# Altium schematic symbol library Connector - Rectangular.SchLib: 115 symbols (part 1 of 2)
Pins are listed as number, name and electrical type; pins without a type are passive.

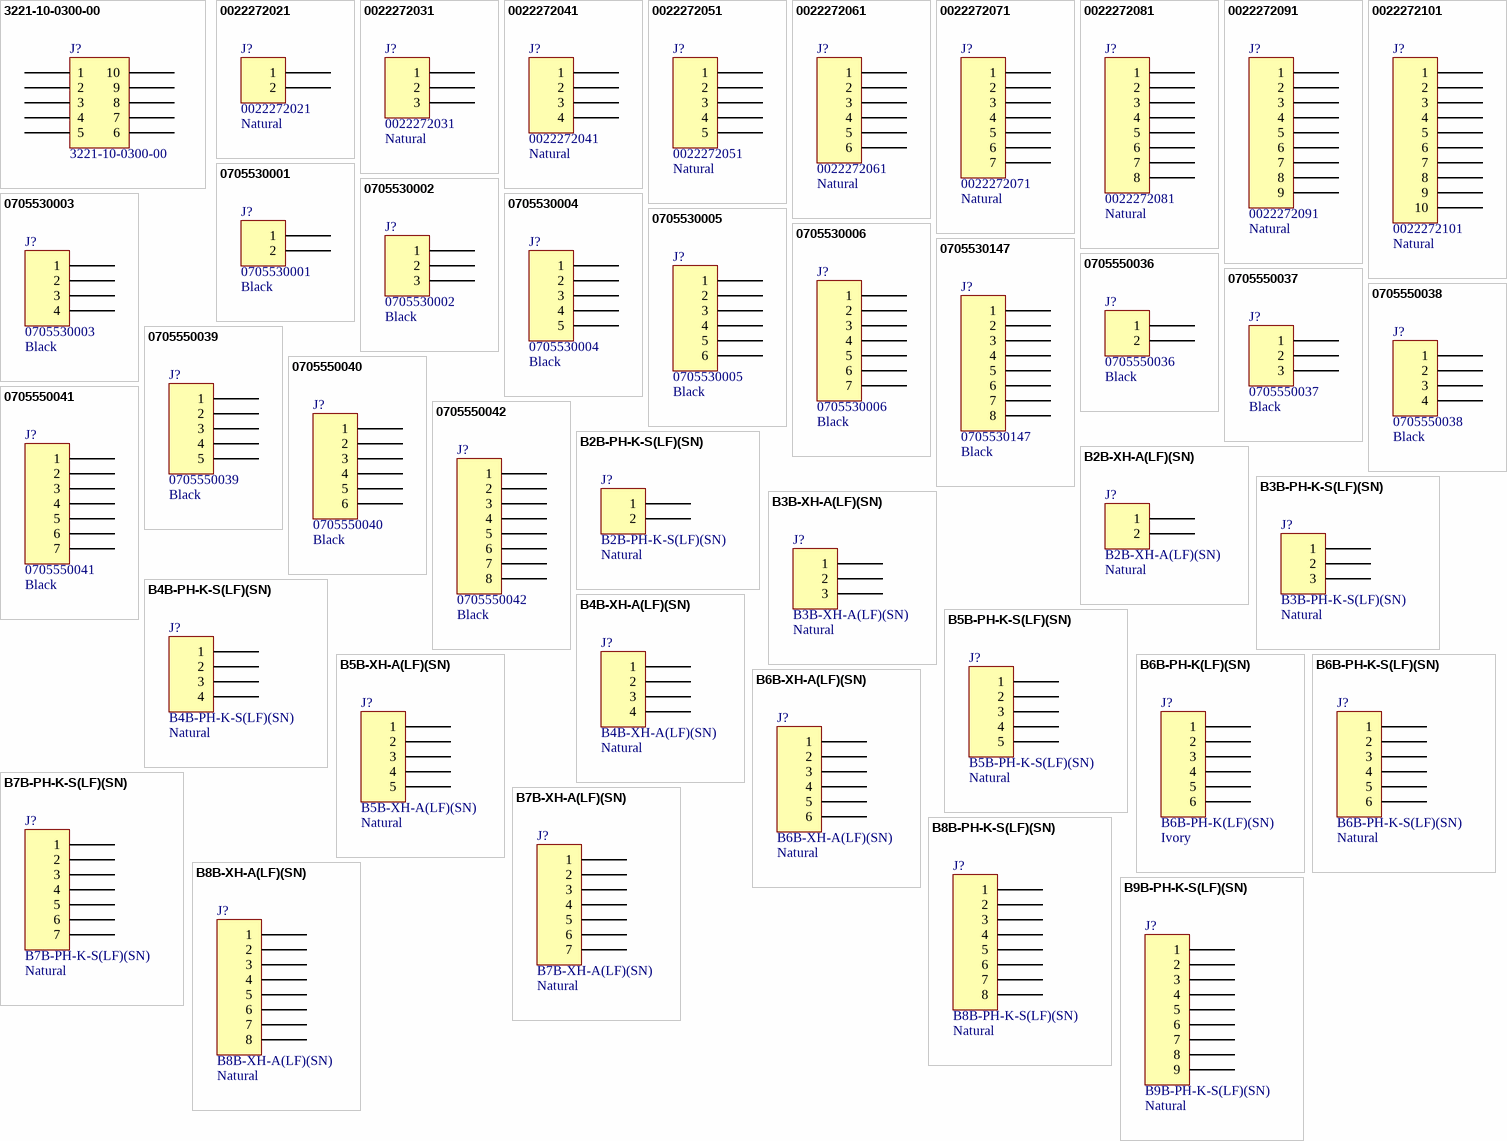
[diagram p0: symbols 3221-10-0300-00 to B9B-PH-K-S(LF)(SN)]

## 3221-10-0300-00
designator J?
IDC BOX HEADER .050" 10 POS; Manufacturer: CNC Tech; Part Number: 3221-10-0300-00; PartId: 21201; Supplier 1: Digi-Key; Supplier Part Number 1: 1175-1735-ND; ComponentLink1Description: Datasheet; ComponentLink1URL: http://cnctech.us/pdfs/3221-XX-0300-00.pdf; ComponentLink2Description: Digi-Key Listing; ComponentLink2URL: http://www.digikey.com/product-detail/en/cnc-tech/3221-10-0300-00/1175-1735-ND/4878946; Price: 0.64
footprint CNC Tech 3221-10-0300-00
pins: 1, 2, 3, 4, 5, 6, 7, 8, 9, 10

## 0022272021
designator J?  Colour: Natural
CONN HEADER 2POS .100 VERT TIN; Manufacturer: Molex, LLC; Pitch: 0.100" (2.54mm); Number Of Positions: 2; Part Number: 0022272021; PartId: 9719; Supplier 1: Digi-Key; Supplier Part Number 1: WM4111-ND; ComponentLink1Description: Datasheet; ComponentLink1URL: http://www.molex.com/pdm_docs/sd/022272021_sd.pdf; ComponentLink2Description: Digi-Key Listing; ComponentLink2URL: http://www.digikey.com/product-search/en?keywords=22-27-2021; Price: 0.25; Type: Header, Unshrouded; Contact Finish: Tin; Fastening Type: Friction Lock; Number Of Rows: 1; Series: KK 6410
footprint MOLEX KK 0022272021
pins: 1, 2

## 0022272031
designator J?  Colour: Natural
CONN HEADER 3POS .100 VERT TIN; Manufacturer: Molex, LLC; Pitch: 0.100" (2.54mm); Number Of Positions: 3; Part Number: 0022272031; PartId: 9720; Supplier 1: Digi-Key; Supplier Part Number 1: WM4112-ND; ComponentLink1Description: Datasheet; ComponentLink1URL: http://www.molex.com/pdm_docs/sd/022272031_sd.pdf; ComponentLink2Description: Digi-Key Listing; ComponentLink2URL: http://www.digikey.com/product-search/en?keywords=22-27-2031; Price: 0.35; Type: Header, Unshrouded; Contact Finish: Tin; Fastening Type: Friction Lock; Number Of Rows: 1; Series: KK 6410
footprint MOLEX KK 0022272031
pins: 1, 2, 3

## 0022272041
designator J?  Colour: Natural
CONN HEADER 4POS .100 VERT TIN; Manufacturer: Molex, LLC; Pitch: 0.100" (2.54mm); Number Of Positions: 4; Part Number: 0022272041; PartId: 9721; Supplier 1: Digi-Key; Supplier Part Number 1: WM4113-ND; ComponentLink1Description: Datasheet; ComponentLink1URL: http://www.molex.com/pdm_docs/sd/022272041_sd.pdf; ComponentLink2Description: Digi-Key Listing; ComponentLink2URL: http://www.digikey.com/product-search/en?keywords=22-27-2041; Price: 0.39; Type: Header, Unshrouded; Contact Finish: Tin; Fastening Type: Friction Lock; Number Of Rows: 1; Series: KK 6410
footprint MOLEX KK 0022272041
pins: 1, 2, 3, 4

## 0022272051
designator J?  Colour: Natural
CONN HEADER 5POS .100 VERT TIN; Manufacturer: Molex, LLC; Pitch: 0.100" (2.54mm); Number Of Positions: 5; Part Number: 0022272051; PartId: 9722; Supplier 1: Digi-Key; Supplier Part Number 1: WM4114-ND; ComponentLink1Description: Datasheet; ComponentLink1URL: http://www.molex.com/pdm_docs/sd/022272051_sd.pdf; ComponentLink2Description: Digi-Key Listing; ComponentLink2URL: http://www.digikey.com/product-search/en?keywords=22-27-2051; Price: 0.44; Type: Header, Unshrouded; Contact Finish: Tin; Fastening Type: Friction Lock; Number Of Rows: 1; Series: KK 6410
footprint MOLEX KK 0022272051
pins: 1, 2, 3, 4, 5

## 0022272061
designator J?  Colour: Natural
CONN HEADER 6POS .100 VERT TIN; Manufacturer: Molex, LLC; Pitch: 0.100" (2.54mm); Number Of Positions: 6; Part Number: 0022272061; PartId: 9723; Supplier 1: Digi-Key; Supplier Part Number 1: WM4115-ND; ComponentLink1Description: Datasheet; ComponentLink1URL: http://www.molex.com/pdm_docs/sd/022272061_sd.pdf; ComponentLink2Description: Digi-Key Listing; ComponentLink2URL: http://www.digikey.com/product-search/en?keywords=22-27-2061; Price: 0.47; Type: Header, Unshrouded; Contact Finish: Tin; Fastening Type: Friction Lock; Number Of Rows: 1; Series: KK 6410
footprint MOLEX KK 0022272061
pins: 1, 2, 3, 4, 5, 6

## 0022272071
designator J?  Colour: Natural
CONN HEADER 7POS .100 VERT TIN; Manufacturer: Molex, LLC; Pitch: 0.100" (2.54mm); Number Of Positions: 7; Part Number: 0022272071; PartId: 9724; Supplier 1: Digi-Key; Supplier Part Number 1: WM4116-ND; ComponentLink1Description: Datasheet; ComponentLink1URL: http://www.molex.com/pdm_docs/sd/022272071_sd.pdf; ComponentLink2Description: Digi-Key Listing; ComponentLink2URL: http://www.digikey.com/product-search/en?keywords=22-27-2071; Price: 0.49; Type: Header, Unshrouded; Contact Finish: Tin; Fastening Type: Friction Lock; Number Of Rows: 1; Series: KK 6410
footprint MOLEX KK 0022272071
pins: 1, 2, 3, 4, 5, 6, 7

## 0022272081
designator J?  Colour: Natural
CONN HEADER 8POS .100 VERT TIN; Manufacturer: Molex, LLC; Pitch: 0.100" (2.54mm); Number Of Positions: 8; Part Number: 0022272081; PartId: 9725; Supplier 1: Digi-Key; Supplier Part Number 1: WM4117-ND; ComponentLink1Description: Datasheet; ComponentLink1URL: http://www.molex.com/pdm_docs/sd/022272081_sd.pdf; ComponentLink2Description: Digi-Key Listing; ComponentLink2URL: http://www.digikey.com/product-search/en?keywords=22-27-2081; Price: 0.55; Type: Header, Unshrouded; Contact Finish: Tin; Fastening Type: Friction Lock; Number Of Rows: 1; Series: KK 6410
footprint MOLEX KK 0022272081
pins: 1, 2, 3, 4, 5, 6, 7, 8

## 0022272091
designator J?  Colour: Natural
CONN HEADER 9POS .100 VERT TIN; Manufacturer: Molex, LLC; Pitch: 0.100" (2.54mm); Number Of Positions: 9; Part Number: 0022272091; PartId: 9726; Supplier 1: Digi-Key; Supplier Part Number 1: WM4118-ND; ComponentLink1Description: Datasheet; ComponentLink1URL: http://www.molex.com/pdm_docs/sd/022272091_sd.pdf; ComponentLink2Description: Digi-Key Listing; ComponentLink2URL: http://www.digikey.com/product-search/en?keywords=22-27-2091; Price: 0.79; Type: Header, Unshrouded; Contact Finish: Tin; Fastening Type: Friction Lock; Number Of Rows: 1; Series: KK 6410
footprint MOLEX KK 0022272091
pins: 1, 2, 3, 4, 5, 6, 7, 8, 9

## 0022272101
designator J?  Colour: Natural
CONN HEADER 10POS .100 VERT TIN; Manufacturer: Molex, LLC; Pitch: 0.100" (2.54mm); Number Of Positions: 10; Part Number: 0022272101; PartId: 9727; Supplier 1: Digi-Key; Supplier Part Number 1: WM4119-ND; ComponentLink1Description: Datasheet; ComponentLink1URL: http://www.molex.com/pdm_docs/sd/022272101_sd.pdf; ComponentLink2Description: Digi-Key Listing; ComponentLink2URL: http://www.digikey.com/product-search/en?keywords=22-27-2101; Price: 0.73; Type: Header, Unshrouded; Contact Finish: Tin; Fastening Type: Friction Lock; Number Of Rows: 1; Series: KK 6410
footprint MOLEX KK 0022272101
pins: 1, 2, 3, 4, 5, 6, 7, 8, 9, 10

## 0705530001
designator J?  Colour: Black
CONN HEADER 2POS .100 R/A GOLD; Manufacturer: Molex, LLC; Pitch: 0.100" (2.54mm); Number Of Positions: 2; Part Number: 0705530001; PartId: 7802; Supplier 1: Digi-Key; Supplier Part Number 1: WM4900-ND; ComponentLink1Description: Datasheet; ComponentLink1URL: http://www.molex.com/pdm_docs/sd/705530001_sd.pdf; ComponentLink2Description: Digi-Key Listing; ComponentLink2URL: http://www.digikey.ca/product-detail/en/0705530001/WM4900-ND/114951; Price: 1.06; Type: Through Hole, Right Angle; Contact Finish: Gold; Fastening Type: Latch Holder; Number Of Rows: 1; Series: 70553
footprint MOLEX SDA-70553-2PIN
pins: 1, 2

## 0705530002
designator J?  Colour: Black
CONN HEADER 3POS .100 R/A GOLD; Manufacturer: Molex, LLC; Pitch: 0.100" (2.54mm); Number Of Positions: 3; Part Number: 0705530002; PartId: 7804; Supplier 1: Digi-Key; Supplier Part Number 1: WM4901-ND; ComponentLink1Description: Datasheet; ComponentLink1URL: http://www.molex.com/pdm_docs/sd/705530002_sd.pdf; ComponentLink2Description: Digi-Key Listing; ComponentLink2URL: http://www.digikey.ca/product-detail/en/0705530002/WM4901-ND/114955; Price: 1.52; Type: Through Hole, Right Angle; Contact Finish: Gold; Fastening Type: Latch Holder; Number Of Rows: 1; Series: 70553
footprint MOLEX SDA-70553-3PIN
pins: 1, 2, 3

## 0705530003
designator J?  Colour: Black
CONN HEADER 4POS .100 R/A GOLD; Manufacturer: Molex, LLC; Pitch: 0.100" (2.54mm); Number Of Positions: 4; Part Number: 0705530003; PartId: 7806; Supplier 1: Digi-Key; Supplier Part Number 1: WM4902-ND; ComponentLink1Description: Datasheet; ComponentLink1URL: http://www.molex.com/pdm_docs/sd/705530002_sd.pdf; ComponentLink2Description: Digi-Key Listing; ComponentLink2URL: http://www.digikey.ca/product-detail/en/0705530003/WM4902-ND/114959; Price: 1.58; Type: Through Hole, Right Angle; Contact Finish: Gold; Fastening Type: Latch Holder; Number Of Rows: 1; Series: 70553
footprint MOLEX SDA-70553-4PIN
pins: 1, 2, 3, 4

## 0705530004
designator J?  Colour: Black
CONN HEADER 5POS .100 R/A GOLD; Manufacturer: Molex, LLC; Pitch: 0.100" (2.54mm); Number Of Positions: 5; Part Number: 0705530004; PartId: 7808; Supplier 1: Digi-Key; Supplier Part Number 1: WM4903-ND; ComponentLink1Description: Datasheet; ComponentLink1URL: http://www.molex.com/pdm_docs/sd/705530002_sd.pdf; ComponentLink2Description: Digi-Key Listing; ComponentLink2URL: http://www.digikey.ca/product-detail/en/0705530004/WM4903-ND/114963; Price: 2.08; Type: Through Hole, Right Angle; Contact Finish: Gold; Fastening Type: Latch Holder; Number Of Rows: 1; Series: 70553
footprint MOLEX SDA-70553-5PIN
pins: 1, 2, 3, 4, 5

## 0705530005
designator J?  Colour: Black
CONN HEADER 6POS .100 R/A GOLD; Manufacturer: Molex, LLC; Pitch: 0.100" (2.54mm); Number Of Positions: 6; Part Number: 0705530005; PartId: 7810; Supplier 1: Digi-Key; Supplier Part Number 1: WM4904-ND; ComponentLink1Description: Datasheet; ComponentLink1URL: http://www.molex.com/pdm_docs/sd/705530005_sd.pdf; ComponentLink2Description: Digi-Key Listing; ComponentLink2URL: http://www.digikey.ca/product-detail/en/0705530005/WM4904-ND/114967; Price: 2.47; Type: Through Hole, Right Angle; Contact Finish: Gold; Fastening Type: -; Number Of Rows: 1; Series: 70553
footprint MOLEX SDA-70553-6PIN
pins: 1, 2, 3, 4, 5, 6

## 0705530006
designator J?  Colour: Black
CONN HEADER 7POS .100 R/A GOLD; Manufacturer: Molex, LLC; Pitch: 0.100" (2.54mm); Number Of Positions: 7; Part Number: 0705530006; PartId: 7812; Supplier 1: Digi-Key; Supplier Part Number 1: WM4905-ND; ComponentLink1Description: Datasheet; ComponentLink1URL: http://www.molex.com/pdm_docs/sd/705530006_sd.pdf; ComponentLink2Description: Digi-Key Listing; ComponentLink2URL: http://www.digikey.ca/product-detail/en/0705530006/WM4905-ND/114971; Price: 3.56; Type: Through Hole, Right Angle; Contact Finish: Gold; Fastening Type: -; Number Of Rows: 1; Series: 70553
footprint MOLEX SDA-70553-7PIN
pins: 1, 2, 3, 4, 5, 6, 7

## 0705530147
designator J?  Colour: Black
CONN HEADER R/A GOLD 8POS; Manufacturer: Molex, LLC; Pitch: 0.100" (2.54mm); Number Of Positions: 8; Part Number: 0705530147; PartId: 7814; Supplier 1: Digi-Key; Supplier Part Number 1: 0705530147-ND; ComponentLink1Description: Datasheet; ComponentLink1URL: http://www.molex.com/pdm_docs/ps/PS-70400.pdf; ComponentLink2Description: Digi-Key Listing; ComponentLink2URL: http://www.digikey.ca/product-detail/en/0705530147/0705530147-ND/3302460; Price: 1.9201; Type: Through Hole, Right Angle; Contact Finish: Gold; Fastening Type: Latch Holder; Number Of Rows: 1; Series: 70553
footprint MOLEX SDA-70553-8PIN
pins: 1, 2, 3, 4, 5, 6, 7, 8

## 0705550036
designator J?  Colour: Black
CONN HEADER 2POS .100 R/A 15AU; Manufacturer: Molex, LLC; Pitch: 0.100" (2.54mm); Number Of Positions: 2; Part Number: 0705550036; PartId: 7803; Supplier 1: Digi-Key; Supplier Part Number 1: WM4175-ND; ComponentLink1Description: Datasheet; ComponentLink1URL: http://www.molex.com/pdm_docs/sd/705550001_sd.pdf; ComponentLink2Description: Digi-Key Listing; ComponentLink2URL: http://www.digikey.ca/product-detail/en/0705550036/WM4175-ND/1643409; Price: 1.52; Type: Through Hole, Right Angle; Contact Finish: Gold; Fastening Type: Latch Holder; Number Of Rows: 1; Series: 70555
footprint MOLEX SDA-70555-2PIN
pins: 1, 2

## 0705550037
designator J?  Colour: Black
CONN HEADER 3POS .100 R/A 15AU; Manufacturer: Molex, LLC; Pitch: 0.100" (2.54mm); Number Of Positions: 3; Part Number: 0705550037; PartId: 7805; Supplier 1: Digi-Key; Supplier Part Number 1: WM4176-ND; ComponentLink1Description: Datasheet; ComponentLink1URL: http://www.molex.com/pdm_docs/sd/705550001_sd.pdf; ComponentLink2Description: Digi-Key Listing; ComponentLink2URL: http://www.digikey.ca/product-detail/en/0705550037/WM4176-ND/1643410; Price: 1.55; Type: Through Hole, Right Angle; Contact Finish: Gold; Fastening Type: Latch Holder; Number Of Rows: 1; Series: 70555
footprint MOLEX SDA-70555-3PIN
pins: 1, 2, 3

## 0705550038
designator J?  Colour: Black
CONN HEADER 4POS .100 R/A 15AU; Manufacturer: Molex, LLC; Pitch: 0.100" (2.54mm); Number Of Positions: 4; Part Number: 0705550038; PartId: 7807; Supplier 1: Digi-Key; Supplier Part Number 1: WM4177-ND; ComponentLink1Description: Datasheet; ComponentLink1URL: http://www.molex.com/pdm_docs/sd/705550001_sd.pdf; ComponentLink2Description: Digi-Key Listing; ComponentLink2URL: http://www.digikey.ca/product-detail/en/0705550038/WM4177-ND/1643411; Price: 1.78; Type: Through Hole, Right Angle; Contact Finish: Gold; Fastening Type: Latch Holder; Number Of Rows: 1; Series: 70555
footprint MOLEX SDA-70555-4PIN
pins: 1, 2, 3, 4

## 0705550039
designator J?  Colour: Black
CONN HEADER 5POS .100 R/A 15AU; Manufacturer: Molex, LLC; Pitch: 0.100" (2.54mm); Number Of Positions: 5; Part Number: 0705550039; PartId: 7809; Supplier 1: Digi-Key; Supplier Part Number 1: WM4178-ND; ComponentLink1Description: Datasheet; ComponentLink1URL: http://www.molex.com/pdm_docs/sd/705550001_sd.pdf; ComponentLink2Description: Digi-Key Listing; ComponentLink2URL: http://www.digikey.ca/product-detail/en/0705550039/WM4178-ND/1643412; Price: 2.85; Type: Through Hole, Right Angle; Contact Finish: Gold; Fastening Type: Latch Holder; Number Of Rows: 1; Series: 70555
footprint MOLEX SDA-70555-5PIN
pins: 1, 2, 3, 4, 5

## 0705550040
designator J?  Colour: Black
CONN HEADER 6POS .100 R/A 15AU; Manufacturer: Molex, LLC; Pitch: 0.100" (2.54mm); Number Of Positions: 6; Part Number: 0705550040; PartId: 7811; Supplier 1: Digi-Key; Supplier Part Number 1: WM4179-ND; ComponentLink1Description: Datasheet; ComponentLink1URL: http://www.molex.com/pdm_docs/sd/705550001_sd.pdf; ComponentLink2Description: Digi-Key Listing; ComponentLink2URL: http://www.digikey.ca/product-detail/en/0705550040/WM4179-ND/1643413; Price: 3.06; Type: Through Hole, Right Angle; Contact Finish: Gold; Fastening Type: -; Number Of Rows: 1; Series: 70555
footprint MOLEX SDA-70555-6PIN
pins: 1, 2, 3, 4, 5, 6

## 0705550041
designator J?  Colour: Black
CONN HEADER 7POS .100 R/A 15AU; Manufacturer: Molex, LLC; Pitch: 0.100" (2.54mm); Number Of Positions: 7; Part Number: 0705550041; PartId: 7813; Supplier 1: Digi-Key; Supplier Part Number 1: WM4180-ND; ComponentLink1Description: Datasheet; ComponentLink1URL: http://www.molex.com/pdm_docs/sd/705550001_sd.pdf; ComponentLink2Description: Digi-Key Listing; ComponentLink2URL: http://www.digikey.ca/product-detail/en/0705550041/WM4180-ND/1643414; Price: 3.99; Type: Through Hole, Right Angle; Contact Finish: Gold; Fastening Type: -; Number Of Rows: 1; Series: 70555
footprint MOLEX SDA-70555-7PIN
pins: 1, 2, 3, 4, 5, 6, 7

## 0705550042
designator J?  Colour: Black
CONN HEADER 8POS .100 R/A 15AU; Manufacturer: Molex, LLC; Pitch: 0.100" (2.54mm); Number Of Positions: 8; Part Number: 0705550042; PartId: 7815; Supplier 1: Digi-Key; Supplier Part Number 1: WM4181-ND; ComponentLink1Description: Datasheet; ComponentLink1URL: http://www.molex.com/pdm_docs/sd/705550001_sd.pdf; ComponentLink2Description: Digi-Key Listing; ComponentLink2URL: http://www.digikey.ca/product-detail/en/0705550042/WM4181-ND/1643415; Price: 3.64; Type: Through Hole, Right Angle; Contact Finish: Gold; Fastening Type: Latch Holder; Number Of Rows: 1; Series: 70555
footprint MOLEX SDA-70555-8PIN
pins: 1, 2, 3, 4, 5, 6, 7, 8

## B2B-PH-K-S(LF)(SN)
designator J?  Colour: Natural
CONN HEADER PH TOP 2POS 2MM; Manufacturer: JST Sales America Inc.; Pitch: 0.079" (2.00mm); Number Of Positions: 2; Part Number: B2B-PH-K-S(LF)(SN); PartId: 29447; Supplier 1: Digi-Key; Supplier Part Number 1: 455-1704-ND; ComponentLink1Description: Datasheet; ComponentLink1URL: http://www.jst-mfg.com/product/pdf/eng/ePH.pdf; ComponentLink2Description: Digi-Key Listing; ComponentLink2URL: http://www.digikey.com/product-detail/en/jst-sales-america-inc/B2B-PH-K-S(LF)(SN)/455-1704-ND/926611; Price: 0.17; Type: Header, Shrouded; Contact Finish: Tin; Fastening Type: Detent Lock; Number Of Rows: 1; Series: PH
footprint JST B2B-PH-K
pins: 1, 2

## B2B-XH-A(LF)(SN)
designator J?  Colour: Natural
CONN HEADER XH TOP 2POS 2.5MM; Manufacturer: JST Sales America Inc.; Pitch: 0.098" (2.50mm); Number Of Positions: 2; Part Number: B2B-XH-A(LF)(SN); PartId: 16449; Supplier 1: Digi-Key; Supplier Part Number 1: 455-2247-ND; ComponentLink1Description: Datasheet; ComponentLink1URL: http://www.jst-mfg.com/product/pdf/eng/eXH.pdf; ComponentLink2Description: Digi-Key Listing; ComponentLink2URL: http://www.digikey.com/product-detail/en/jst-sales-america-inc/B2B-XH-A(LF)(SN)/455-2247-ND/1651045; Price: 0.15; Type: Header, Shrouded; Contact Finish: Tin; Fastening Type: Detent Lock; Number Of Rows: 1; Series: XH
footprint JST XH B2B-XH-A
pins: 1, 2

## B3B-PH-K-S(LF)(SN)
designator J?  Colour: Natural
CONN HEADER PH TOP 3POS 2MM; Manufacturer: JST Sales America Inc.; Pitch: 0.079" (2.00mm); Number Of Positions: 3; Part Number: B3B-PH-K-S(LF)(SN); PartId: 29448; Supplier 1: Digi-Key; Supplier Part Number 1: 455-1705-ND; ComponentLink1Description: Datasheet; ComponentLink1URL: http://www.jst-mfg.com/product/pdf/eng/ePH.pdf; ComponentLink2Description: Digi-Key Listing; ComponentLink2URL: http://www.digikey.com/product-detail/en/jst-sales-america-inc/B3B-PH-K-S(LF)(SN)/455-1705-ND/926612; Price: 0.19; Type: Header, Shrouded; Contact Finish: Tin; Fastening Type: Detent Lock; Number Of Rows: 1; Series: PH
footprint JST B3B-PH-K
pins: 1, 2, 3

## B3B-XH-A(LF)(SN)
designator J?  Colour: Natural
CONN HEADER XH TOP 3POS 2.5MM; Manufacturer: JST Sales America Inc.; Pitch: 0.098" (2.50mm); Number Of Positions: 3; Part Number: B3B-XH-A(LF)(SN); PartId: 16450; Supplier 1: Digi-Key; Supplier Part Number 1: 455-2248-ND; ComponentLink1Description: Datasheet; ComponentLink1URL: http://www.jst-mfg.com/product/pdf/eng/eXH.pdf; ComponentLink2Description: Digi-Key Listing; ComponentLink2URL: http://www.digikey.com/product-detail/en/jst-sales-america-inc/B3B-XH-A(LF)(SN)/455-2248-ND/1651046; Price: 0.19; Type: Header, Shrouded; Contact Finish: Tin; Fastening Type: Detent Lock; Number Of Rows: 1; Series: XH
footprint JST XH B3B-XH-A
pins: 1, 2, 3

## B4B-PH-K-S(LF)(SN)
designator J?  Colour: Natural
CONN HEADER PH TOP 4POS 2MM; Manufacturer: JST Sales America Inc.; Pitch: 0.079" (2.00mm); Number Of Positions: 4; Part Number: B4B-PH-K-S(LF)(SN); PartId: 29449; Supplier 1: Digi-Key; Supplier Part Number 1: 455-1706-ND; ComponentLink1Description: Datasheet; ComponentLink1URL: http://www.jst-mfg.com/product/pdf/eng/ePH.pdf; ComponentLink2Description: Digi-Key Listing; ComponentLink2URL: http://www.digikey.com/product-detail/en/jst-sales-america-inc/B4B-PH-K-S(LF)(SN)/455-1706-ND/926613; Price: 0.24; Type: Header, Shrouded; Contact Finish: Tin; Fastening Type: Detent Lock; Number Of Rows: 1; Series: PH
footprint JST B4B-PH-K
pins: 1, 2, 3, 4

## B4B-XH-A(LF)(SN)
designator J?  Colour: Natural
CONN HEADER XH TOP 4POS 2.5MM; Manufacturer: JST Sales America Inc.; Pitch: 0.098" (2.50mm); Number Of Positions: 4; Part Number: B4B-XH-A(LF)(SN); PartId: 16451; Supplier 1: Digi-Key; Supplier Part Number 1: 455-2249-ND; ComponentLink1Description: Datasheet; ComponentLink1URL: http://www.jst-mfg.com/product/pdf/eng/eXH.pdf; ComponentLink2Description: Digi-Key Listing; ComponentLink2URL: http://www.digikey.com/product-detail/en/jst-sales-america-inc/B4B-XH-A(LF)(SN)/455-2249-ND/1651047; Price: 0.21; Type: Header, Shrouded; Contact Finish: Tin; Fastening Type: Detent Lock; Number Of Rows: 1; Series: XH
footprint JST XH B4B-XH-A
pins: 1, 2, 3, 4

## B5B-PH-K-S(LF)(SN)
designator J?  Colour: Natural
CONN HEADER PH TOP 5POS 2MM; Manufacturer: JST Sales America Inc.; Pitch: 0.079" (2.00mm); Number Of Positions: 5; Part Number: B5B-PH-K-S(LF)(SN); PartId: 29450; Supplier 1: Digi-Key; Supplier Part Number 1: 455-1707-ND; ComponentLink1Description: Datasheet; ComponentLink1URL: http://www.jst-mfg.com/product/pdf/eng/ePH.pdf; ComponentLink2Description: Digi-Key Listing; ComponentLink2URL: http://www.digikey.com/product-detail/en/jst-sales-america-inc/B5B-PH-K-S(LF)(SN)/455-1707-ND/926614; Price: 0.29; Type: Header, Shrouded; Contact Finish: Tin; Fastening Type: Detent Lock; Number Of Rows: 1; Series: PH
footprint JST B5B-PH-K
pins: 1, 2, 3, 4, 5

## B5B-XH-A(LF)(SN)
designator J?  Colour: Natural
CONN HEADER XH TOP 5POS 2.5MM; Manufacturer: JST Sales America Inc.; Pitch: 0.098" (2.50mm); Number Of Positions: 5; Part Number: B5B-XH-A(LF)(SN); PartId: 16452; Supplier 1: Digi-Key; Supplier Part Number 1: 455-2270-ND; ComponentLink1Description: Datasheet; ComponentLink1URL: http://www.jst-mfg.com/product/pdf/eng/eXH.pdf; ComponentLink2Description: Digi-Key Listing; ComponentLink2URL: http://www.digikey.com/product-detail/en/jst-sales-america-inc/B5B-XH-A(LF)(SN)/455-2270-ND/1530483; Price: 0.25; Type: Header, Shrouded; Contact Finish: Tin; Fastening Type: Detent Lock; Number Of Rows: 1; Series: XH
footprint JST XH B5B-XH-A
pins: 1, 2, 3, 4, 5

## B6B-PH-K(LF)(SN)
designator J?  Colour: Ivory
CONN HEADER PH TOP 6POS 2MM; Manufacturer: JST Sales America Inc.; Pitch: 0.079" (2.00mm); Number Of Positions: 6; Part Number: B6B-PH-K(LF)(SN); PartId: 29451; Supplier 1: Digi-Key; Supplier Part Number 1: 455-2923-ND; ComponentLink1Description: Datasheet; ComponentLink1URL: http://www.jst-mfg.com/product/pdf/eng/ePH.pdf; ComponentLink2Description: Digi-Key Listing; ComponentLink2URL: http://www.digikey.com/product-detail/en/jst-sales-america-inc/B6B-PH-K(LF)(SN)/455-2923-ND/2741628; Price: 0.34; Type: Header, Shrouded; Contact Finish: Tin; Fastening Type: Detent Lock; Number Of Rows: 1; Series: PH
footprint JST B6B-PH-K
pins: 1, 2, 3, 4, 5, 6

## B6B-PH-K-S(LF)(SN)
designator J?  Colour: Natural
CONN HEADER PH TOP 6POS 2MM; Manufacturer: JST Sales America Inc.; Pitch: 0.079" (2.00mm); Number Of Positions: 6; Part Number: B6B-PH-K-S(LF)(SN); PartId: 29452; Supplier 1: Digi-Key; Supplier Part Number 1: 455-1708-ND; ComponentLink1Description: Datasheet; ComponentLink1URL: http://www.jst-mfg.com/product/pdf/eng/ePH.pdf; ComponentLink2Description: Digi-Key Listing; ComponentLink2URL: http://www.digikey.com/product-detail/en/jst-sales-america-inc/B6B-PH-K-S(LF)(SN)/455-1708-ND/926615; Price: 0.33; Type: Header, Shrouded; Contact Finish: Tin; Fastening Type: Detent Lock; Number Of Rows: 1; Series: PH
footprint JST B6B-PH-K
pins: 1, 2, 3, 4, 5, 6

## B6B-XH-A(LF)(SN)
designator J?  Colour: Natural
CONN HEADER XH TOP 6POS 2.5MM; Manufacturer: JST Sales America Inc.; Pitch: 0.098" (2.50mm); Number Of Positions: 6; Part Number: B6B-XH-A(LF)(SN); PartId: 16453; Supplier 1: Digi-Key; Supplier Part Number 1: 455-2271-ND; ComponentLink1Description: Datasheet; ComponentLink1URL: http://www.jst-mfg.com/product/pdf/eng/eXH.pdf; ComponentLink2Description: Digi-Key Listing; ComponentLink2URL: http://www.digikey.com/product-detail/en/jst-sales-america-inc/B6B-XH-A(LF)(SN)/455-2271-ND/1000381; Price: 0.27; Type: Header, Shrouded; Contact Finish: Tin; Fastening Type: Detent Lock; Number Of Rows: 1; Series: XH
footprint JST XH B6B-XH-A
pins: 1, 2, 3, 4, 5, 6

## B7B-PH-K-S(LF)(SN)
designator J?  Colour: Natural
CONN HEADER PH TOP 7POS 2MM; Manufacturer: JST Sales America Inc.; Pitch: 0.079" (2.00mm); Number Of Positions: 7; Part Number: B7B-PH-K-S(LF)(SN); PartId: 29453; Supplier 1: Digi-Key; Supplier Part Number 1: 455-1709-ND; ComponentLink1Description: Datasheet; ComponentLink1URL: http://www.jst-mfg.com/product/pdf/eng/ePH.pdf; ComponentLink2Description: Digi-Key Listing; ComponentLink2URL: http://www.digikey.com/product-detail/en/jst-sales-america-inc/B7B-PH-K-S(LF)(SN)/455-1709-ND/926616; Price: 0.39; Type: Header, Shrouded; Contact Finish: Tin; Fastening Type: Detent Lock; Number Of Rows: 1; Series: PH
footprint JST B7B-PH-K
pins: 1, 2, 3, 4, 5, 6, 7

## B7B-XH-A(LF)(SN)
designator J?  Colour: Natural
CONN HEADER XH TOP 7POS 2.5MM; Manufacturer: JST Sales America Inc.; Pitch: 0.098" (2.50mm); Number Of Positions: 7; Part Number: B7B-XH-A(LF)(SN); PartId: 16454; Supplier 1: Digi-Key; Supplier Part Number 1: 455-2252-ND; ComponentLink1Description: Datasheet; ComponentLink1URL: http://www.jst-mfg.com/product/pdf/eng/eXH.pdf; ComponentLink2Description: Digi-Key Listing; ComponentLink2URL: http://www.digikey.com/product-detail/en/jst-sales-america-inc/B7B-XH-A(LF)(SN)/455-2252-ND/1651050; Price: 0.33; Type: Header, Shrouded; Contact Finish: Tin; Fastening Type: Detent Lock; Number Of Rows: 1; Series: XH
footprint JST XH B7B-XH-A
pins: 1, 2, 3, 4, 5, 6, 7

## B8B-PH-K-S(LF)(SN)
designator J?  Colour: Natural
CONN HEADER PH TOP 8POS 2MM; Manufacturer: JST Sales America Inc.; Pitch: 0.079" (2.00mm); Number Of Positions: 8; Part Number: B8B-PH-K-S(LF)(SN); PartId: 29454; Supplier 1: Digi-Key; Supplier Part Number 1: 455-1710-ND; ComponentLink1Description: Datasheet; ComponentLink1URL: http://www.jst-mfg.com/product/pdf/eng/ePH.pdf; ComponentLink2Description: Digi-Key Listing; ComponentLink2URL: http://www.digikey.com/product-detail/en/jst-sales-america-inc/B8B-PH-K-S(LF)(SN)/455-1710-ND/926617; Price: 0.43; Type: Header, Shrouded; Contact Finish: Tin; Fastening Type: Detent Lock; Number Of Rows: 1; Series: PH
footprint JST B8B-PH-K
pins: 1, 2, 3, 4, 5, 6, 7, 8

## B8B-XH-A(LF)(SN)
designator J?  Colour: Natural
CONN HEADER XH TOP 8POS 2.5MM; Manufacturer: JST Sales America Inc.; Pitch: 0.098" (2.50mm); Number Of Positions: 8; Part Number: B8B-XH-A(LF)(SN); PartId: 16455; Supplier 1: Digi-Key; Supplier Part Number 1: 455-2251-ND; ComponentLink1Description: Datasheet; ComponentLink1URL: http://www.jst-mfg.com/product/pdf/eng/eXH.pdf; ComponentLink2Description: Digi-Key Listing; ComponentLink2URL: http://www.digikey.com/product-detail/en/jst-sales-america-inc/B8B-XH-A(LF)(SN)/455-2251-ND/1651049; Price: 0.36; Type: Header, Shrouded; Contact Finish: Tin; Fastening Type: Detent Lock; Number Of Rows: 1; Series: XH
footprint JST XH B8B-XH-A
pins: 1, 2, 3, 4, 5, 6, 7, 8

## B9B-PH-K-S(LF)(SN)
designator J?  Colour: Natural
CONN HEADER PH TOP 9POS 2MM; Manufacturer: JST Sales America Inc.; Pitch: 0.079" (2.00mm); Number Of Positions: 9; Part Number: B9B-PH-K-S(LF)(SN); PartId: 29455; Supplier 1: Digi-Key; Supplier Part Number 1: 455-1711-ND; ComponentLink1Description: Datasheet; ComponentLink1URL: http://www.jst-mfg.com/product/pdf/eng/ePH.pdf; ComponentLink2Description: Digi-Key Listing; ComponentLink2URL: http://www.digikey.com/product-detail/en/jst-sales-america-inc/B9B-PH-K-S(LF)(SN)/455-1711-ND/926618; Price: 0.48; Type: Header, Shrouded; Contact Finish: Tin; Fastening Type: Detent Lock; Number Of Rows: 1; Series: PH
footprint JST B9B-PH-K
pins: 1, 2, 3, 4, 5, 6, 7, 8, 9

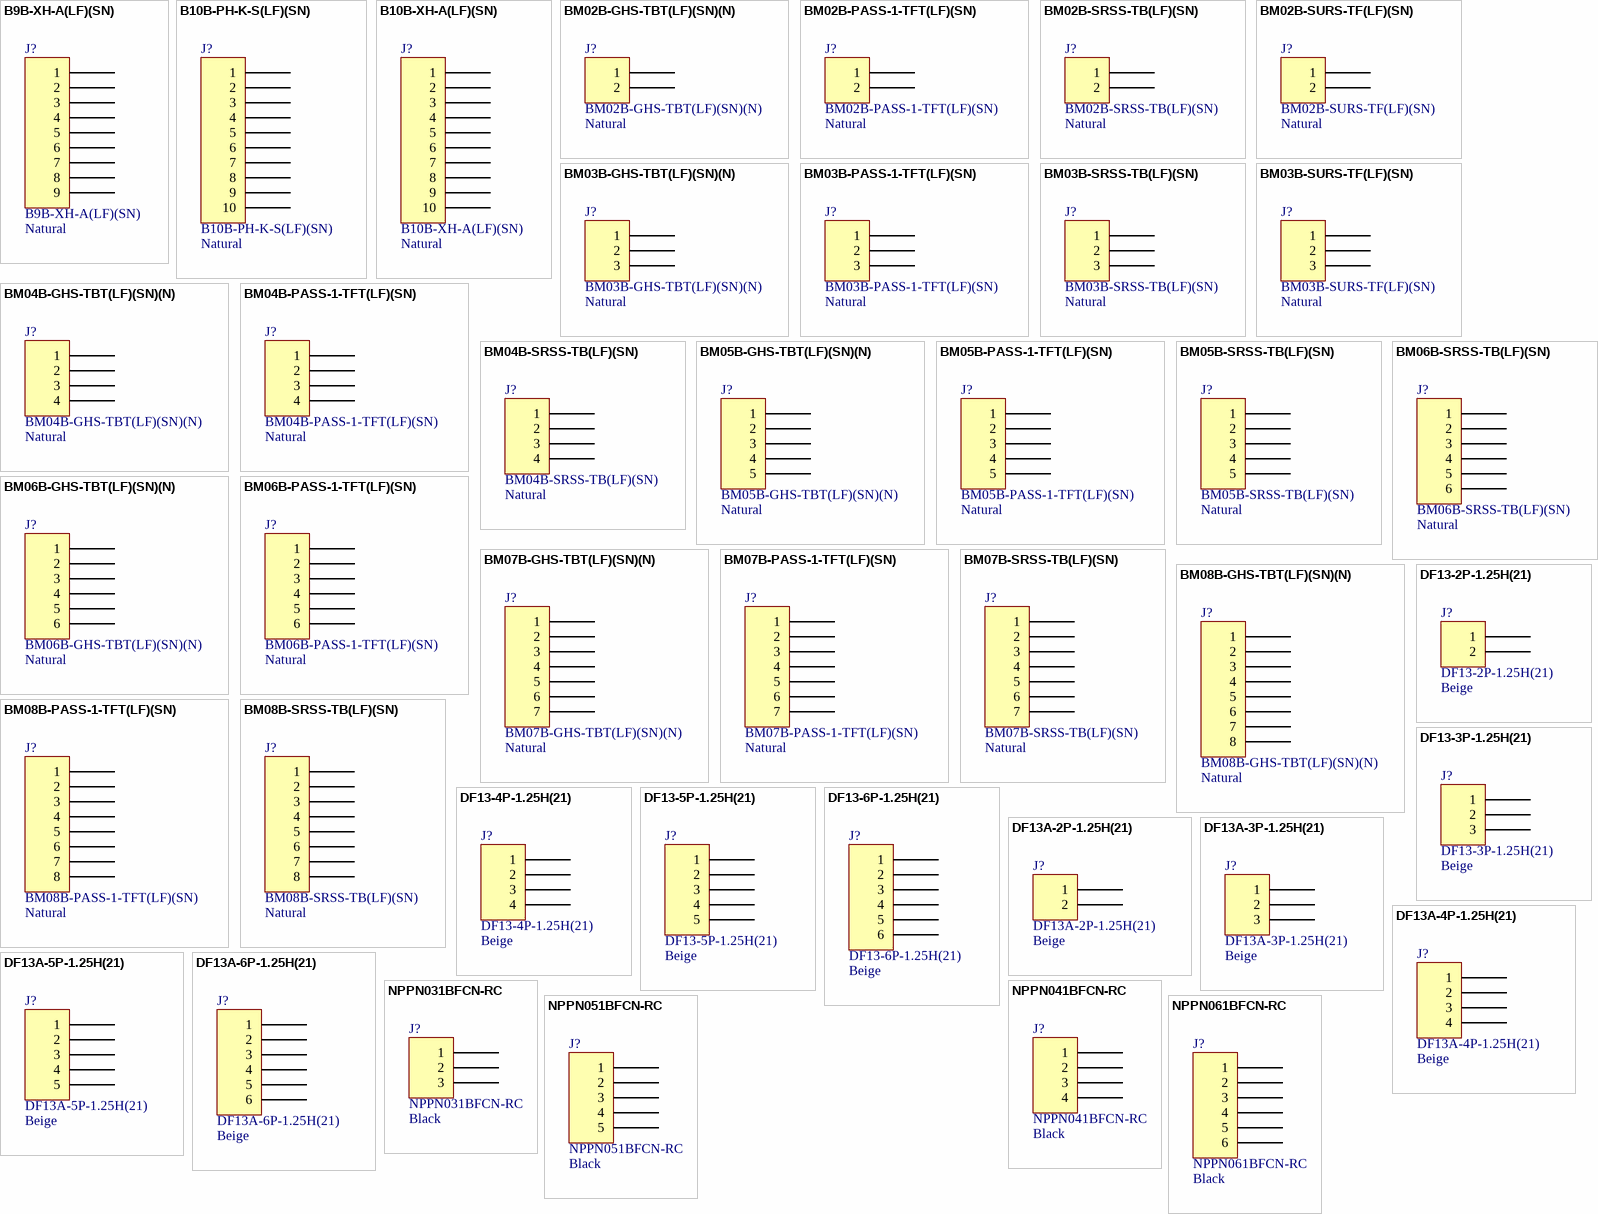
[diagram p1: symbols B9B-XH-A(LF)(SN) to NPPN061BFCN-RC]

## B9B-XH-A(LF)(SN)
designator J?  Colour: Natural
CONN HEADER XH TOP 9POS 2.5MM; Manufacturer: JST Sales America Inc.; Pitch: 0.098" (2.50mm); Number Of Positions: 9; Part Number: B9B-XH-A(LF)(SN); PartId: 16456; Supplier 1: Digi-Key; Supplier Part Number 1: 455-2244-ND; ComponentLink1Description: Datasheet; ComponentLink1URL: http://www.jst-mfg.com/product/pdf/eng/eXH.pdf; ComponentLink2Description: Digi-Key Listing; ComponentLink2URL: http://www.digikey.com/product-detail/en/jst-sales-america-inc/B9B-XH-A(LF)(SN)/455-2244-ND/1651042; Price: 0.4; Type: Header, Shrouded; Contact Finish: Tin; Fastening Type: Detent Lock; Number Of Rows: 1; Series: XH
footprint JST XH B9B-XH-A
pins: 1, 2, 3, 4, 5, 6, 7, 8, 9

## B10B-PH-K-S(LF)(SN)
designator J?  Colour: Natural
CONN HEADER PH TOP 10POS 2MM; Manufacturer: JST Sales America Inc.; Pitch: 0.079" (2.00mm); Number Of Positions: 10; Part Number: B10B-PH-K-S(LF)(SN); PartId: 29456; Supplier 1: Digi-Key; Supplier Part Number 1: 455-1712-ND; ComponentLink1Description: Datasheet; ComponentLink1URL: http://www.jst-mfg.com/product/pdf/eng/ePH.pdf; ComponentLink2Description: Digi-Key Listing; ComponentLink2URL: http://www.digikey.com/product-detail/en/jst-sales-america-inc/B10B-PH-K-S(LF)(SN)/455-1712-ND/926619; Price: 0.46; Type: Header, Shrouded; Contact Finish: Tin; Fastening Type: Detent Lock; Number Of Rows: 1; Series: PH
footprint JST B10B-PH-K
pins: 1, 2, 3, 4, 5, 6, 7, 8, 9, 10

## B10B-XH-A(LF)(SN)
designator J?  Colour: Natural
CONN HEADER XH TOP 10POS 2.5MM; Manufacturer: JST Sales America Inc.; Pitch: 0.098" (2.50mm); Number Of Positions: 10; Part Number: B10B-XH-A(LF)(SN); PartId: 16457; Supplier 1: Digi-Key; Supplier Part Number 1: 455-2253-ND; ComponentLink1Description: Datasheet; ComponentLink1URL: http://www.jst-mfg.com/product/pdf/eng/eXH.pdf; ComponentLink2Description: Digi-Key Listing; ComponentLink2URL: http://www.digikey.com/product-detail/en/jst-sales-america-inc/B10B-XH-A(LF)(SN)/455-2253-ND/1651051; Price: 0.47; Type: Header, Shrouded; Contact Finish: Tin; Fastening Type: Detent Lock; Number Of Rows: 1; Series: XH
footprint JST XH B10B-XH-A
pins: 1, 2, 3, 4, 5, 6, 7, 8, 9, 10

## BM02B-GHS-TBT(LF)(SN)(N)
designator J?  Colour: Natural
CONN HEADER GH TOP 2POS 1.25MM; Manufacturer: JST Sales America Inc.; Pitch: 0.049" (1.25mm); Number Of Positions: 2; Part Number: BM02B-GHS-TBT(LF)(SN)(N); PartId: 7816; Supplier 1: Digi-Key; Supplier Part Number 1: 455-1578-2-ND; ComponentLink1Description: Datasheet; ComponentLink1URL: http://www.jst-mfg.com/product/pdf/eng/eGH.pdf; ComponentLink2Description: Digi-Key Listing; ComponentLink2URL: http://www.digikey.ca/product-detail/en/BM02B-GHS-TBT(LF)(SN)(N)/455-1578-2-ND/807800; Price: 0.2297; Type: Surface Mount; Contact Finish: Tin; Fastening Type: Locking Ramp; Number Of Rows: 1; Series: GH
footprint JST BM02B-GHS-TBT
pins: 1, 2

## BM02B-PASS-1-TFT(LF)(SN)
designator J?  Colour: Natural
CONN HEADER PA 2POS TOP SMD; Manufacturer: JST Sales America Inc.; Pitch: 0.079" (2.00mm); Number Of Positions: 2; Part Number: BM02B-PASS-1-TFT(LF)(SN); PartId: 7849; Supplier 1: Digi-Key; Supplier Part Number 1: 455-2637-2-ND; ComponentLink1Description: Datasheet; ComponentLink1URL: http://www.jst-mfg.com/product/pdf/eng/ePA-F.pdf; ComponentLink2Description: Digi-Key Listing; ComponentLink2URL: http://www.digikey.ca/product-detail/en/BM02B-PASS-1-TFT(LF)(SN)/455-2637-2-ND/2773419; Price: 0.5673; Type: Surface Mount; Contact Finish: Tin; Fastening Type: Locking Ramp; Number Of Rows: 1; Series: PA
footprint JST BM02B-PASS-TF
pins: 1, 2

## BM02B-SRSS-TB(LF)(SN)
designator J?  Colour: Natural
CONN HEADER SH 2POS TOP 1MM TIN; Manufacturer: JST Sales America Inc.; Pitch: 0.039" (1.00mm); Number Of Positions: 2; Part Number: BM02B-SRSS-TB(LF)(SN); PartId: 7830; Supplier 1: Digi-Key; Supplier Part Number 1: 455-1788-2-ND; ComponentLink1Description: Datasheet; ComponentLink1URL: http://media.digikey.com/pdf/Data%20Sheets/JST%20PDFs/SR%20Connector.pdf; ComponentLink2Description: Digi-Key Listing; ComponentLink2URL: http://www.digikey.ca/product-detail/en/BM02B-SRSS-TB(LF)(SN)/455-1788-2-ND/926694; Price: 0.2951; Type: Surface Mount; Contact Finish: Tin; Fastening Type: -; Number Of Rows: 1; Series: SR
footprint JST BM02B-SRSS-TB
pins: 1, 2

## BM02B-SURS-TF(LF)(SN)
designator J?  Colour: Natural
CONN HDR SUR TOP 2POS 0.8MM TIN; Manufacturer: JST Sales America Inc.; Pitch: 0.031" (0.80mm); Number Of Positions: 2; Part Number: BM02B-SURS-TF(LF)(SN); PartId: 7845; Supplier 1: Digi-Key; Supplier Part Number 1: 455-2956-2-ND; ComponentLink1Description: Datasheet; ComponentLink1URL: http://www.jst-mfg.com/product/pdf/eng/eSUR.pdf; ComponentLink2Description: Digi-Key Listing; ComponentLink2URL: http://www.digikey.ca/product-detail/en/BM02B-SURS-TF(LF)(SN)/455-2956-2-ND/2241777; Price: 0.2778; Type: Surface Mount; Contact Finish: Tin; Fastening Type: -; Number Of Rows: 1; Series: SUR
footprint JST BM02B-SURS-TF
pins: 1, 2

## BM03B-GHS-TBT(LF)(SN)(N)
designator J?  Colour: Natural
CONN HEADER GH TOP 3POS 1.25MM; Manufacturer: JST Sales America Inc.; Pitch: 0.049" (1.25mm); Number Of Positions: 3; Part Number: BM03B-GHS-TBT(LF)(SN)(N); PartId: 7819; Supplier 1: Digi-Key; Supplier Part Number 1: 455-1579-2-ND; ComponentLink1Description: Datasheet; ComponentLink1URL: http://www.jst-mfg.com/product/pdf/eng/eGH.pdf; ComponentLink2Description: Digi-Key Listing; ComponentLink2URL: http://www.digikey.ca/product-detail/en/BM03B-GHS-TBT(LF)(SN)(N)/455-1579-2-ND/807801; Price: 0.2558; Type: Surface Mount; Contact Finish: Tin; Fastening Type: Locking Ramp; Number Of Rows: 1; Series: GH
footprint JST BM03B-GHS-TBT
pins: 1, 2, 3

## BM03B-PASS-1-TFT(LF)(SN)
designator J?  Colour: Natural
CONN HEADER PA 3POS TOP SMD; Manufacturer: JST Sales America Inc.; Pitch: 0.079" (2.00mm); Number Of Positions: 3; Part Number: BM03B-PASS-1-TFT(LF)(SN); PartId: 7850; Supplier 1: Digi-Key; Supplier Part Number 1: 455-2638-2-ND; ComponentLink1Description: Datasheet; ComponentLink1URL: http://www.jst-mfg.com/product/pdf/eng/ePA-F.pdf; ComponentLink2Description: Digi-Key Listing; ComponentLink2URL: http://www.digikey.ca/product-detail/en/BM03B-PASS-1-TFT(LF)(SN)/455-2638-2-ND/2773420; Price: 0.624; Type: Surface Mount; Contact Finish: Tin; Fastening Type: Locking Ramp; Number Of Rows: 1; Series: PA
footprint JST BM03B-PASS-TF
pins: 1, 2, 3

## BM03B-SRSS-TB(LF)(SN)
designator J?  Colour: Natural
CONN HEADER SH 3POS TOP 1MM TIN; Manufacturer: JST Sales America Inc.; Pitch: 0.039" (1.00mm); Number Of Positions: 3; Part Number: BM03B-SRSS-TB(LF)(SN); PartId: 7833; Supplier 1: Digi-Key; Supplier Part Number 1: 455-1789-2-ND; ComponentLink1Description: Datasheet; ComponentLink1URL: http://media.digikey.com/pdf/Data%20Sheets/JST%20PDFs/SR%20Connector.pdf; ComponentLink2Description: Digi-Key Listing; ComponentLink2URL: http://www.digikey.ca/product-detail/en/BM03B-SRSS-TB(LF)(SN)/455-1789-2-ND/926695; Price: 0.3343; Type: Surface Mount; Contact Finish: Tin; Fastening Type: -; Number Of Rows: 1; Series: SR
footprint JST BM03B-SRSS-TB
pins: 1, 2, 3

## BM03B-SURS-TF(LF)(SN)
designator J?  Colour: Natural
.8MM PITCH DISP CONN; Manufacturer: JST Sales America Inc.; Pitch: 0.031" (0.80mm); Number Of Positions: 3; Part Number: BM03B-SURS-TF(LF)(SN); PartId: 7846; Supplier 1: Digi-Key; Supplier Part Number 1: BM03B-SURS-TF(LF)(SN)-ND; ComponentLink1Description: Datasheet; ComponentLink2Description: Digi-Key Listing; ComponentLink2URL: http://www.digikey.ca/product-detail/en/BM03B-SURS-TF(LF)(SN)/BM03B-SURS-TF(LF)(SN)-ND/2744495; Price: 0.2979; Type: Surface Mount; Contact Finish: Tin; Fastening Type: -; Number Of Rows: 1; Series: SUR
footprint JST BM03B-SURS-TF
pins: 1, 2, 3

## BM04B-GHS-TBT(LF)(SN)(N)
designator J?  Colour: Natural
CONN HEADER GH TOP 4POS 1.25MM; Manufacturer: JST Sales America Inc.; Pitch: 0.049" (1.25mm); Number Of Positions: 4; Part Number: BM04B-GHS-TBT(LF)(SN)(N); PartId: 7820; Supplier 1: Digi-Key; Supplier Part Number 1: 455-1580-2-ND; ComponentLink1Description: Datasheet; ComponentLink1URL: http://www.jst-mfg.com/product/pdf/eng/eGH.pdf; ComponentLink2Description: Digi-Key Listing; ComponentLink2URL: http://www.digikey.ca/product-detail/en/BM04B-GHS-TBT(LF)(SN)(N)/455-1580-2-ND/807802; Price: 0.2732; Type: Surface Mount; Contact Finish: Tin; Fastening Type: Locking Ramp; Number Of Rows: 1; Series: GH
footprint JST BM04B-GHS-TBT
pins: 1, 2, 3, 4

## BM04B-PASS-1-TFT(LF)(SN)
designator J?  Colour: Natural
CONN HEADER PA 4POS TOP SMD; Manufacturer: JST Sales America Inc.; Pitch: 0.079" (2.00mm); Number Of Positions: 4; Part Number: BM04B-PASS-1-TFT(LF)(SN); PartId: 7851; Supplier 1: Digi-Key; Supplier Part Number 1: 455-2639-2-ND; ComponentLink1Description: Datasheet; ComponentLink1URL: http://www.jst-mfg.com/product/pdf/eng/ePA-F.pdf; ComponentLink2Description: Digi-Key Listing; ComponentLink2URL: http://www.digikey.ca/product-detail/en/BM04B-PASS-1-TFT(LF)(SN)/455-2639-2-ND/2773421; Price: 0.6701; Type: Surface Mount; Contact Finish: Tin; Fastening Type: Locking Ramp; Number Of Rows: 1; Series: PA
footprint JST BM04B-PASS-TF
pins: 1, 2, 3, 4

## BM04B-SRSS-TB(LF)(SN)
designator J?  Colour: Natural
CONN HEADER SH 4POS TOP 1MM TIN; Manufacturer: JST Sales America Inc.; Pitch: 0.039" (1.00mm); Number Of Positions: 4; Part Number: BM04B-SRSS-TB(LF)(SN); PartId: 7834; Supplier 1: Digi-Key; Supplier Part Number 1: 455-1790-2-ND; ComponentLink1Description: Datasheet; ComponentLink1URL: http://www.jst-mfg.com/product/pdf/eng/eSH.pdf; ComponentLink2Description: Digi-Key Listing; ComponentLink2URL: http://www.digikey.ca/product-detail/en/BM04B-SRSS-TB(LF)(SN)/455-1790-2-ND/926696; Price: 0.3922; Type: Surface Mount; Contact Finish: Tin; Fastening Type: -; Number Of Rows: 1; Series: SR
footprint JST BM04B-SRSS-TB
pins: 1, 2, 3, 4

## BM05B-GHS-TBT(LF)(SN)(N)
designator J?  Colour: Natural
CONN HEADER GH TOP 5POS 1.25MM; Manufacturer: JST Sales America Inc.; Pitch: 0.049" (1.25mm); Number Of Positions: 5; Part Number: BM05B-GHS-TBT(LF)(SN)(N); PartId: 7822; Supplier 1: Digi-Key; Supplier Part Number 1: 455-1581-2-ND; ComponentLink1Description: Datasheet; ComponentLink1URL: http://www.jst-mfg.com/product/pdf/eng/eGH.pdf; ComponentLink2Description: Digi-Key Listing; ComponentLink2URL: http://www.digikey.ca/product-detail/en/BM05B-GHS-TBT(LF)(SN)(N)/455-1581-2-ND/807803; Price: 0.286; Type: Surface Mount; Contact Finish: Tin; Fastening Type: Locking Ramp; Number Of Rows: 1; Series: GH
footprint JST BM05B-GHS-TBT
pins: 1, 2, 3, 4, 5

## BM05B-PASS-1-TFT(LF)(SN)
designator J?  Colour: Natural
CONN HEADER PA 5POS TOP SMD; Manufacturer: JST Sales America Inc.; Pitch: 0.079" (2.00mm); Number Of Positions: 5; Part Number: BM05B-PASS-1-TFT(LF)(SN); PartId: 7852; Supplier 1: Digi-Key; Supplier Part Number 1: 455-2640-2-ND; ComponentLink1Description: Datasheet; ComponentLink1URL: http://www.jst-mfg.com/product/pdf/eng/ePA-F.pdf; ComponentLink2Description: Digi-Key Listing; ComponentLink2URL: http://www.digikey.ca/product-detail/en/BM05B-PASS-1-TFT(LF)(SN)/455-2640-2-ND/2773422; Price: 0.6649; Type: Surface Mount; Contact Finish: Tin; Fastening Type: Locking Ramp; Number Of Rows: 1; Series: PA
footprint JST BM05B-PASS-TF
pins: 1, 2, 3, 4, 5

## BM05B-SRSS-TB(LF)(SN)
designator J?  Colour: Natural
CONN HEADER SH 5POS TOP 1MM TIN; Manufacturer: JST Sales America Inc.; Pitch: 0.039" (1.00mm); Number Of Positions: 5; Part Number: BM05B-SRSS-TB(LF)(SN); PartId: 7837; Supplier 1: Digi-Key; Supplier Part Number 1: 455-1791-2-ND; ComponentLink1Description: Datasheet; ComponentLink1URL: http://media.digikey.com/pdf/Data%20Sheets/JST%20PDFs/SR%20Connector.pdf; ComponentLink2Description: Digi-Key Listing; ComponentLink2URL: http://www.digikey.ca/product-detail/en/BM05B-SRSS-TB(LF)(SN)/455-1791-2-ND/926697; Price: 0.4756; Type: Surface Mount; Contact Finish: Tin; Fastening Type: -; Number Of Rows: 1; Series: SR
footprint JST BM05B-SRSS-TB
pins: 1, 2, 3, 4, 5

## BM06B-GHS-TBT(LF)(SN)(N)
designator J?  Colour: Natural
CONN HEADER GH TOP 6POS 1.25MM; Manufacturer: JST Sales America Inc.; Pitch: 0.049" (1.25mm); Number Of Positions: 6; Part Number: BM06B-GHS-TBT(LF)(SN)(N); PartId: 7824; Supplier 1: Digi-Key; Supplier Part Number 1: 455-1582-2-ND; ComponentLink1Description: Datasheet; ComponentLink1URL: http://www.jst-mfg.com/product/pdf/eng/eGH.pdf; ComponentLink2Description: Digi-Key Listing; ComponentLink2URL: http://www.digikey.ca/product-detail/en/BM06B-GHS-TBT(LF)(SN)(N)/455-1582-2-ND/807804; Price: 0.3255; Type: Surface Mount; Contact Finish: Tin; Fastening Type: Locking Ramp; Number Of Rows: 1; Series: GH
footprint JST BM06B-GHS-TBT
pins: 1, 2, 3, 4, 5, 6

## BM06B-PASS-1-TFT(LF)(SN)
designator J?  Colour: Natural
CONN HEADER PA 6POS TOP SMD; Manufacturer: JST Sales America Inc.; Pitch: 0.079" (2.00mm); Number Of Positions: 6; Part Number: BM06B-PASS-1-TFT(LF)(SN); PartId: 7853; Supplier 1: Digi-Key; Supplier Part Number 1: 455-2641-2-ND; ComponentLink1Description: Datasheet; ComponentLink1URL: http://www.jst-mfg.com/product/pdf/eng/ePA-F.pdf; ComponentLink2Description: Digi-Key Listing; ComponentLink2URL: http://www.digikey.ca/product-detail/en/BM06B-PASS-1-TFT(LF)(SN)/455-2641-2-ND/2773423; Price: 0.7417; Type: Surface Mount; Contact Finish: Tin; Fastening Type: Locking Ramp; Number Of Rows: 1; Series: PA
footprint JST BM06B-PASS-TF
pins: 1, 2, 3, 4, 5, 6

## BM06B-SRSS-TB(LF)(SN)
designator J?  Colour: Natural
CONN HEADER SH 6POS TOP 1MM TIN; Manufacturer: JST Sales America Inc.; Pitch: 0.039" (1.00mm); Number Of Positions: 6; Part Number: BM06B-SRSS-TB(LF)(SN); PartId: 7838; Supplier 1: Digi-Key; Supplier Part Number 1: 455-1792-2-ND; ComponentLink1Description: Datasheet; ComponentLink1URL: http://www.jst-mfg.com/product/pdf/eng/eSH.pdf; ComponentLink2Description: Digi-Key Listing; ComponentLink2URL: http://www.digikey.ca/product-detail/en/BM06B-SRSS-TB(LF)(SN)/455-1792-2-ND/926698; Price: 0.5235; Type: Surface Mount; Contact Finish: Tin; Fastening Type: -; Number Of Rows: 1; Series: SR
footprint JST BM06B-SRSS-TB
pins: 1, 2, 3, 4, 5, 6

## BM07B-GHS-TBT(LF)(SN)(N)
designator J?  Colour: Natural
CONN HEADER GH TOP 7POS 1.25MM; Manufacturer: JST Sales America Inc.; Pitch: 0.049" (1.25mm); Number Of Positions: 7; Part Number: BM07B-GHS-TBT(LF)(SN)(N); PartId: 7827; Supplier 1: Digi-Key; Supplier Part Number 1: 455-1583-2-ND; ComponentLink1Description: Datasheet; ComponentLink1URL: http://www.jst-mfg.com/product/pdf/eng/eGH.pdf; ComponentLink2Description: Digi-Key Listing; ComponentLink2URL: http://www.digikey.ca/product-detail/en/BM07B-GHS-TBT(LF)(SN)(N)/455-1583-2-ND/807805; Price: 0.3405; Type: Surface Mount; Contact Finish: Tin; Fastening Type: Locking Ramp; Number Of Rows: 1; Series: GH
footprint JST BM07B-GHS-TBT
pins: 1, 2, 3, 4, 5, 6, 7

## BM07B-PASS-1-TFT(LF)(SN)
designator J?  Colour: Natural
CONN HEADER PA 7POS TOP SMD; Manufacturer: JST Sales America Inc.; Pitch: 0.079" (2.00mm); Number Of Positions: 7; Part Number: BM07B-PASS-1-TFT(LF)(SN); PartId: 7854; Supplier 1: Digi-Key; Supplier Part Number 1: 455-2642-2-ND; ComponentLink1Description: Datasheet; ComponentLink1URL: http://www.jst-mfg.com/product/pdf/eng/ePA-F.pdf; ComponentLink2Description: Digi-Key Listing; ComponentLink2URL: http://www.digikey.ca/product-detail/en/BM07B-PASS-1-TFT(LF)(SN)/455-2642-2-ND/2773424; Price: 0.8065; Type: Surface Mount; Contact Finish: Tin; Fastening Type: Locking Ramp; Number Of Rows: 1; Series: PA
footprint JST BM07B-PASS-TF
pins: 1, 2, 3, 4, 5, 6, 7

## BM07B-SRSS-TB(LF)(SN)
designator J?  Colour: Natural
CONN HEADER SH 7POS TOP 1MM TIN; Manufacturer: JST Sales America Inc.; Pitch: 0.039" (1.00mm); Number Of Positions: 7; Part Number: BM07B-SRSS-TB(LF)(SN); PartId: 7841; Supplier 1: Digi-Key; Supplier Part Number 1: 455-1793-2-ND; ComponentLink1Description: Datasheet; ComponentLink1URL: http://www.jst-mfg.com/product/pdf/eng/eSH.pdf; ComponentLink2Description: Digi-Key Listing; ComponentLink2URL: http://www.digikey.ca/product-detail/en/BM07B-SRSS-TB(LF)(SN)/455-1793-2-ND/926699; Price: 0.5721; Type: Surface Mount; Contact Finish: Tin; Fastening Type: -; Number Of Rows: 1; Series: SR
footprint JST BM07B-SRSS-TB
pins: 1, 2, 3, 4, 5, 6, 7

## BM08B-GHS-TBT(LF)(SN)(N)
designator J?  Colour: Natural
CONN HEADER GH TOP 8POS 1.25MM; Manufacturer: JST Sales America Inc.; Pitch: 0.049" (1.25mm); Number Of Positions: 8; Part Number: BM08B-GHS-TBT(LF)(SN)(N); PartId: 7829; Supplier 1: Digi-Key; Supplier Part Number 1: 455-1584-2-ND; ComponentLink1Description: Datasheet; ComponentLink1URL: http://www.jst-mfg.com/product/pdf/eng/eGH.pdf; ComponentLink2Description: Digi-Key Listing; ComponentLink2URL: http://www.digikey.ca/product-detail/en/BM08B-GHS-TBT(LF)(SN)(N)/455-1584-2-ND/807806; Price: 0.3408; Type: Surface Mount; Contact Finish: Tin; Fastening Type: Locking Ramp; Number Of Rows: 1; Series: GH
footprint JST BM08B-GHS-TBT
pins: 1, 2, 3, 4, 5, 6, 7, 8

## BM08B-PASS-1-TFT(LF)(SN)
designator J?  Colour: Natural
CONN HEADER PA 8POS TOP SMD; Manufacturer: JST Sales America Inc.; Pitch: 0.079" (2.00mm); Number Of Positions: 8; Part Number: BM08B-PASS-1-TFT(LF)(SN); PartId: 7855; Supplier 1: Digi-Key; Supplier Part Number 1: 455-2643-2-ND; ComponentLink1Description: Datasheet; ComponentLink1URL: http://www.jst-mfg.com/product/pdf/eng/ePA-F.pdf; ComponentLink2Description: Digi-Key Listing; ComponentLink2URL: http://www.digikey.ca/product-detail/en/BM08B-PASS-1-TFT(LF)(SN)/455-2643-2-ND/2773425; Price: 0.8392; Type: Surface Mount; Contact Finish: Tin; Fastening Type: Locking Ramp; Number Of Rows: 1; Series: PA
footprint JST BM08B-PASS-TF
pins: 1, 2, 3, 4, 5, 6, 7, 8

## BM08B-SRSS-TB(LF)(SN)
designator J?  Colour: Natural
CONN HEADER SH 8POS TOP 1MM TIN; Manufacturer: JST Sales America Inc.; Pitch: 0.039" (1.00mm); Number Of Positions: 8; Part Number: BM08B-SRSS-TB(LF)(SN); PartId: 7842; Supplier 1: Digi-Key; Supplier Part Number 1: 455-1794-2-ND; ComponentLink1Description: Datasheet; ComponentLink1URL: http://media.digikey.com/pdf/Data%20Sheets/JST%20PDFs/SR%20Connector.pdf; ComponentLink2Description: Digi-Key Listing; ComponentLink2URL: http://www.digikey.ca/product-detail/en/BM08B-SRSS-TB(LF)(SN)/455-1794-2-ND/926700; Price: 0.5947; Type: Surface Mount; Contact Finish: Tin; Fastening Type: -; Number Of Rows: 1; Series: SR
footprint JST BM08B-SRSS-TB
pins: 1, 2, 3, 4, 5, 6, 7, 8

## DF13-2P-1.25H(21)
designator J?  Colour: Beige
CONN HEADER 2POS 1.25MM R/A TIN; Manufacturer: Hirose Electric Co Ltd; Pitch: 0.049" (1.25mm); Number Of Positions: 2; Part Number: DF13-2P-1.25H(21); PartId: 7792; Supplier 1: Digi-Key; Supplier Part Number 1: DF13-2P-1.25H(21)-ND; ComponentLink1Description: Datasheet; ComponentLink1URL: http://www.hirose.co.jp/cataloge_hp/en_DF13_20130411.pdf; ComponentLink2Description: Digi-Key Listing; ComponentLink2URL: http://www.digikey.ca/product-detail/en/DF13-2P-1.25H(21)/DF13-2P-1.25H(21)-ND/444061; Price: 0.3123; Type: Header, Shrouded; Number Of Rows: 1; Series: DF13
footprint HIROSE DF13-2P-1.25H
pins: 1, 2

## DF13-3P-1.25H(21)
designator J?  Colour: Beige
CONN HDR 3POS 1.25MM R/A TIN; Manufacturer: Hirose Electric Co Ltd; Pitch: 0.049" (1.25mm); Number Of Positions: 3; Part Number: DF13-3P-1.25H(21); PartId: 7794; Supplier 1: Digi-Key; Supplier Part Number 1: DF13-3P-1.25H(21)-ND; ComponentLink1Description: Datasheet; ComponentLink1URL: http://www.hirose.co.jp/cataloge_hp/en_DF13_20130411.pdf; ComponentLink2Description: Digi-Key Listing; ComponentLink2URL: http://www.digikey.ca/product-detail/en/DF13-3P-1.25H(21)/DF13-3P-1.25H(21)-ND/4282193; Price: 0.3478; Type: Surface Mount, Right Angle; Number Of Rows: 1; Series: DF13
footprint HIROSE DF13-3P-1.25H
pins: 1, 2, 3

## DF13-4P-1.25H(21)
designator J?  Colour: Beige
CONN HEADER 4POS 1.25MM R/A TIN; Manufacturer: Hirose Electric Co Ltd; Pitch: 0.049" (1.25mm); Number Of Positions: 4; Part Number: DF13-4P-1.25H(21); PartId: 7796; Supplier 1: Digi-Key; Supplier Part Number 1: DF13-4P-1.25H(21)-ND; ComponentLink1Description: Datasheet; ComponentLink1URL: http://www.hirose.co.jp/cataloge_hp/en_DF13_20130411.pdf; ComponentLink2Description: Digi-Key Listing; ComponentLink2URL: http://www.digikey.ca/product-detail/en/DF13-4P-1.25H(21)/DF13-4P-1.25H(21)-ND/444062; Price: 0.4212; Type: Surface Mount, Right Angle; Number Of Rows: 1; Series: DF13
footprint HIROSE DF13-4P-1.25H
pins: 1, 2, 3, 4

## DF13-5P-1.25H(21)
designator J?  Colour: Beige
CONN HDR 5POS 1.25MM R/A TIN T&R; Manufacturer: Hirose Electric Co Ltd; Pitch: 0.049" (1.25mm); Number Of Positions: 5; Part Number: DF13-5P-1.25H(21); PartId: 7798; Supplier 1: Digi-Key; Supplier Part Number 1: DF13-5P-1.25H(21)-ND; ComponentLink1Description: Datasheet; ComponentLink1URL: http://www.hirose.co.jp/cataloge_hp/en_DF13_20130411.pdf; ComponentLink2Description: Digi-Key Listing; ComponentLink2URL: http://www.digikey.ca/product-detail/en/DF13-5P-1.25H(21)/DF13-5P-1.25H(21)-ND/253116; Price: 0.4591; Type: Surface Mount, Right Angle; Number Of Rows: 1; Series: DF13
footprint HIROSE DF13-5P-1.25H
pins: 1, 2, 3, 4, 5

## DF13-6P-1.25H(21)
designator J?  Colour: Beige
CONN HEADER 6POS 1.25MM RA TIN; Manufacturer: Hirose Electric Co Ltd; Pitch: 0.049" (1.25mm); Number Of Positions: 6; Part Number: DF13-6P-1.25H(21); PartId: 7800; Supplier 1: Digi-Key; Supplier Part Number 1: DF13-6P-1.25H(21)-ND; ComponentLink1Description: Datasheet; ComponentLink1URL: http://www.hirose.co.jp/cataloge_hp/en_DF13_20130411.pdf; ComponentLink2Description: Digi-Key Listing; ComponentLink2URL: http://www.digikey.ca/product-detail/en/DF13-6P-1.25H(21)/DF13-6P-1.25H(21)-ND/3977728; Price: 0.4969; Type: Surface Mount, Right Angle; Number Of Rows: 1; Series: DF13
footprint HIROSE DF13-6P-1.25H
pins: 1, 2, 3, 4, 5, 6

## DF13A-2P-1.25H(21)
designator J?  Colour: Beige
CONN HEADER 2POS 1.25MM RA TIN; Manufacturer: Hirose Electric Co Ltd; Pitch: 0.049" (1.25mm); Number Of Positions: 2; Part Number: DF13A-2P-1.25H(21); PartId: 7793; Supplier 1: Digi-Key; Supplier Part Number 1: DF13A-2P-1.25H(21)-ND; ComponentLink1Description: Datasheet; ComponentLink1URL: http://www.hirose.co.jp/cataloge_hp/en_DF13_20130411.pdf; ComponentLink2Description: Digi-Key Listing; ComponentLink2URL: http://www.digikey.ca/product-detail/en/DF13A-2P-1.25H(21)/DF13A-2P-1.25H(21)-ND/3977735; Price: 0.3123; Type: Surface Mount, Right Angle; Number Of Rows: 1; Series: DF13
footprint HIROSE DF13A-2P-1.25H
pins: 1, 2